# Altium schematic symbol library symbols.SchLib: 1 symbol
Pins are listed as number, name and electrical type; pins without a type are passive.

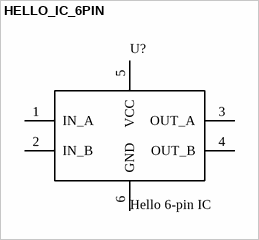
[diagram p0: symbol HELLO_IC_6PIN]

## HELLO_IC_6PIN
designator U?, comment Hello 6-pin IC
Hello world 6-pin example
pins: 1 IN_A, 2 IN_B, 3 OUT_A, 4 OUT_B, 5 VCC (power), 6 GND (power)